# EAGLE library part AI-RA02 (library ai-ra02)
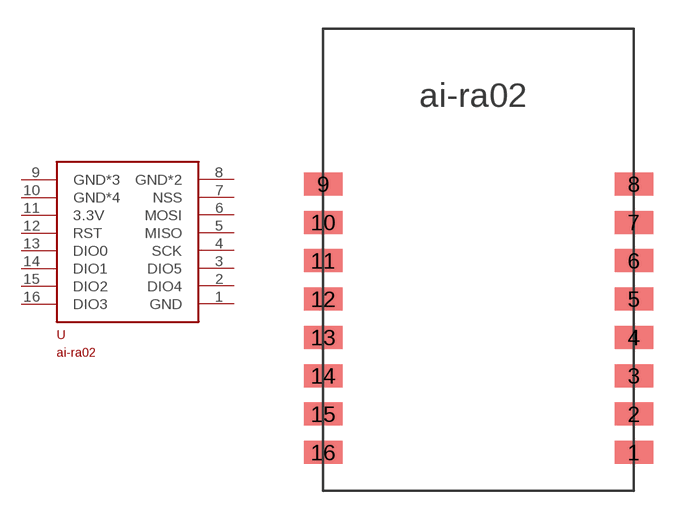
[diagram p0: symbol with the pads of AI-RA02; footprint AI-RA02]

Designator prefix -

## AI-RA02  [AI-RA02]
1  GND
2  DIO4
3  DIO5
4  SCK
5  MISO
6  MOSI
7  NSS
8  GND*2
9  GND*3
10  GND*4
11  3.3V
12  RST
13  DIO0
14  DIO1
15  DIO2
16  DIO3

## Footprint AI-RA02 (pad centres in mm)
smd 2 x 1.2: 1 16.2,2; 2 16.2,4; 3 16.2,6; 4 16.2,8; 5 16.2,10; 6 16.2,12; 7 16.2,14; 8 16.2,16; 9 0,16; 10 0,14; 11 0,12; 12 0,10; 13 0,8; 14 0,6; 15 0,4; 16 0,2